# EAGLE library part TDA8303 (library _mtvl_ic)
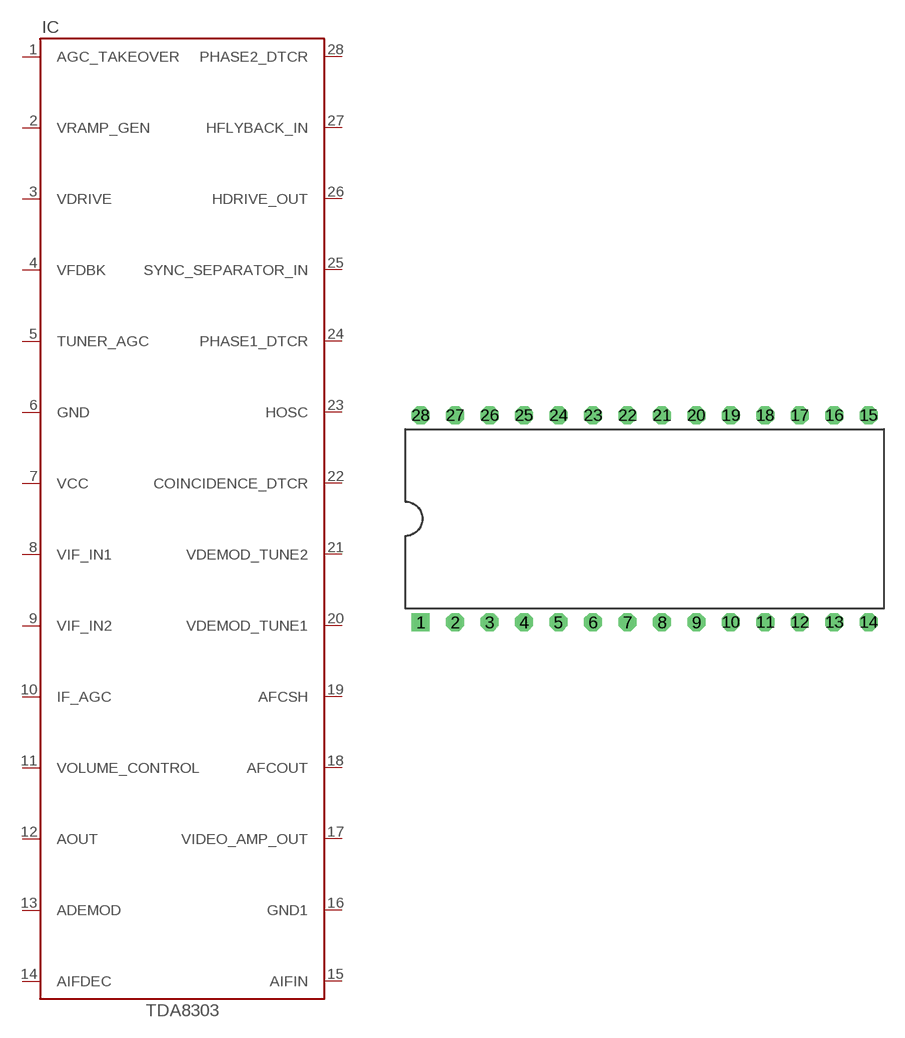
[diagram p60: symbol with the pads of DIL28-6; footprint DIL28-6]

Designator prefix IC

## TDA8303  [DIL28-6]
1  AGC_TAKEOVER
2  VRAMP_GEN
3  VDRIVE
4  VFDBK
5  TUNER_AGC
6  GND  pwr
7  VCC  pwr
8  VIF_IN1  in
9  VIF_IN2  in
10  IF_AGC
11  VOLUME_CONTROL
12  AOUT  out
13  ADEMOD
14  AIFDEC
15  AIFIN  in
16  GND1  pwr
17  VIDEO_AMP_OUT  out
18  AFCOUT  out
19  AFCSH
20  VDEMOD_TUNE1
21  VDEMOD_TUNE2
22  COINCIDENCE_DTCR
23  HOSC
24  PHASE1_DTCR
25  SYNC_SEPARATOR_IN  in
26  HDRIVE_OUT  out
27  HFLYBACK_IN
28  PHASE2_DTCR

## Footprint DIL28-6 (pad centres in mm)
Dual In Line Package 0.6 inch SOT117-1
drill 0.813 square: 1 -16.51,-7.62
drill 0.813 octagon: 2 -13.97,-7.62; 3 -11.43,-7.62; 4 -8.89,-7.62; 5 -6.35,-7.62; 6 -3.81,-7.62; 7 -1.27,-7.62; 8 1.27,-7.62; 9 3.81,-7.62; 10 6.35,-7.62; 11 8.89,-7.62; 12 11.43,-7.62; 13 13.97,-7.62; 14 16.51,-7.62; 15 16.51,7.62; 16 13.97,7.62; 17 11.43,7.62; 18 8.89,7.62; 19 6.35,7.62; 20 3.81,7.62; 21 1.27,7.62; 22 -1.27,7.62; 23 -3.81,7.62; 24 -6.35,7.62; 25 -8.89,7.62; 26 -11.43,7.62; 27 -13.97,7.62; 28 -16.51,7.62